# EAGLE library part ACCELEROMETER-3AXIS-KX132 (library FlashPCB_Sensors)
ACCELEROMETER-3AXIS-KX132 - Tri-axis ±2g, ±4g, ±8g, or ±16g silicon micromachined accelerometer featuring a user-configurable 3-stage Advanced Data Path Technical Specifications: Range: Up to ±16g Output Data Rate: up to 25600Hz Component Search: KX132-1211 <https://www.flashpcb.com/components> Datasheet: KX132-1211-Specifications <https://kionixfs.azureedge.net/en/datasheet/kx132-1211-e.pdf>
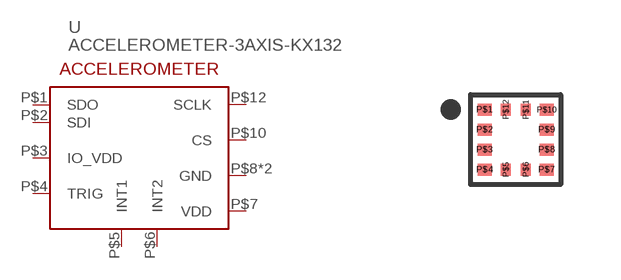
[diagram p0: symbol with the pads of 12-LGA(2X2); footprint 12-LGA(2X2)]

Designator prefix U

## ACCELEROMETER-3AXIS-KX132  [12-LGA(2X2)]
P$1  SDO
P$2  SDI
P$3  IO_VDD
P$4  TRIG
P$5  INT1
P$6  INT2
P$7  VDD
P$8  GND
P$9  GND
P$10  CS
P$12  SCLK

## Footprint 12-LGA(2X2) (pad centres in mm)
smd 0.35 x 0.3: P$1 -0.775,0.75; P$2 -0.775,0.25; P$3 -0.775,-0.25; P$4 -0.775,-0.75; P$7 0.775,-0.75; P$8 0.775,-0.25; P$9 0.775,0.25; P$10 0.775,0.75
smd 0.25 x 0.3: P$5 -0.25,-0.75; P$6 0.25,-0.75; P$11 0.25,0.75; P$12 -0.25,0.75